# EAGLE library part A3931 (library Adams)
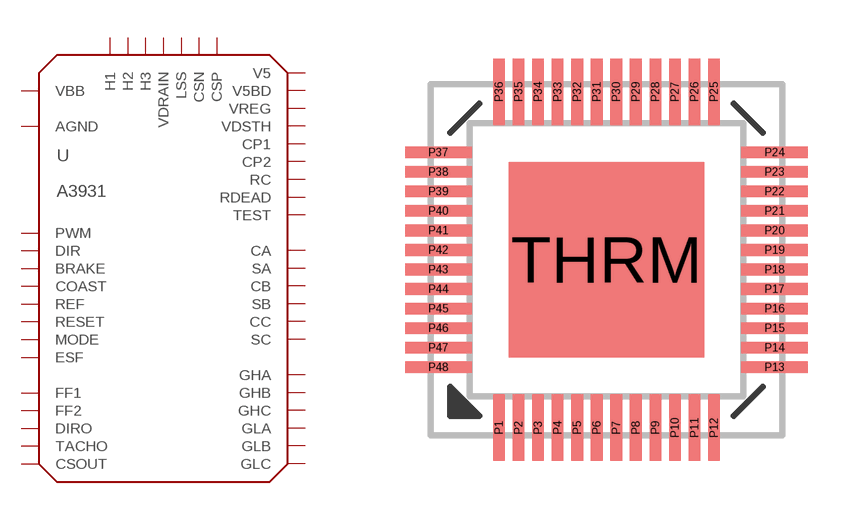
[diagram p2: symbol with the pads of LQFP-48; footprint LQFP-48]

Designator prefix U

## A3931JP  [LQFP-48]
P2  RESET  in
P3  V5BD
P4  V5
P5  FF2  out
P6  FF1  out
P7  TACHO  out
P8  BRAKE  in
P9  DIR  in
P10  H1  in
P11  H2  in
P12  H3  in
P14  PWM  in
P15  MODE  in
P16  RC
P17  TEST
P18  RDEAD
P19  CSOUT  out
P20  REF  in
P21  CSN
P22  CSP
P23  VDSTH
P24  VDRAIN
P25  SC
P26  GHC  out
P27  CC
P28  SB
P29  GHB  out
P30  CB
P31  SA
P32  GHA  out
P33  CA
P34  GLC  out
P35  GLB  out
P36  GLA  out
P38  LSS
P39  ESF  in
P40  VREG
P41  AGND  pwr
P42  CP1
P43  CP2
P44  DIRO  out
P45  VBB  pwr
P46  COAST  in
THRM  AGND  pwr

## Footprint LQFP-48 (pad centres in mm)
smd 0.3 x 1.7: P1 -2.75,-4.3; P2 -2.25,-4.3; P3 -1.75,-4.3; P4 -1.25,-4.3; P5 -0.75,-4.3; P6 -0.25,-4.3; P7 0.25,-4.3; P8 0.75,-4.3; P9 1.25,-4.3; P10 1.75,-4.3; P11 2.25,-4.3; P12 2.75,-4.3; P25 2.75,4.3; P26 2.25,4.3; P27 1.75,4.3; P28 1.25,4.3; P29 0.75,4.3; P30 0.25,4.3; P31 -0.25,4.3; P32 -0.75,4.3; P33 -1.25,4.3; P34 -1.75,4.3; P35 -2.25,4.3; P36 -2.75,4.3
smd 1.7 x 0.3: P13 4.3,-2.75; P14 4.3,-2.25; P15 4.3,-1.75; P16 4.3,-1.25; P17 4.3,-0.75; P18 4.3,-0.25; P19 4.3,0.25; P20 4.3,0.75; P21 4.3,1.25; P22 4.3,1.75; P23 4.3,2.25; P24 4.3,2.75; P37 -4.3,2.75; P38 -4.3,2.25; P39 -4.3,1.75; P40 -4.3,1.25; P41 -4.3,0.75; P42 -4.3,0.25; P43 -4.3,-0.25; P44 -4.3,-0.75; P45 -4.3,-1.25; P46 -4.3,-1.75; P47 -4.3,-2.25; P48 -4.3,-2.75
smd 5 x 5: THRM 0,0